# Altium footprint library Transistors$.PcbLib: 18 footprints (part 2 of 2)
Each footprint in its own frame and in the unit in brackets; x right, y up, seen from the top. Pads: shape width x height; smd on the part's side, far side on the other; paste and mask are expansions set on the pad; w line width, h text height; cw(c..) or ccw(c..) is an arc to the next point about the centre after c.
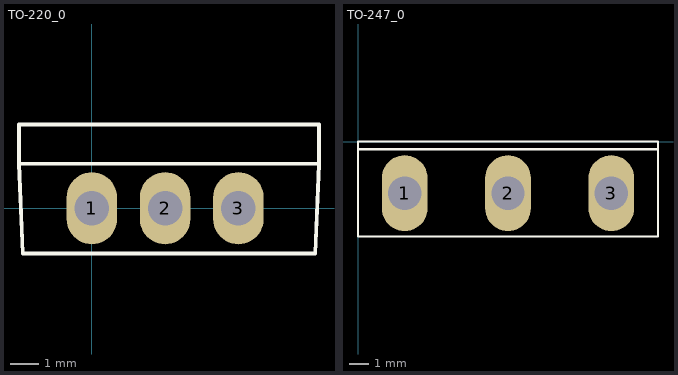
[diagram p1: the footprints below, top view; thin cyan lines are the x and y axes]

## TO-220_0 [mm]
pads (3):
  oval 1.75x2.5 hole 1.194: 1(0,0) 2(2.54,0) 3(5.08,0)
Top Overlay:
  lines w0.127: 7.874,1.524 7.747,-1.568 -2.397,-1.568 -2.525,1.539 ; -2.525,1.539 -2.525,2.9 7.874,2.9 7.874,1.539 -2.525,1.539
3D body "TO-220AB-FairA.stp": height 19.5, standoff -9.2, extent -2.785,-1.7 7.865,3.1

## TO-247_0 [mm] "TO-247 vertical"
pads (3):
  oval 2.4x4 hole 1.75: 1(2.46,-2.72) 2(7.9,-2.72) 3(13.34,-2.72)
Top Overlay:
  lines w0.127: 0,-0.4 15.8,-0.4 ; 0,-5 0,0 15.8,0 15.8,-5 0,-5
3D body "TO-247_factory.stp": height 24.8, standoff -17.9, extent 0,-5 15.6,0